# EAGLE library part 09032646825 (library con-harting-din)
EUROCARD DIN CONNECTOR female, 96 pin
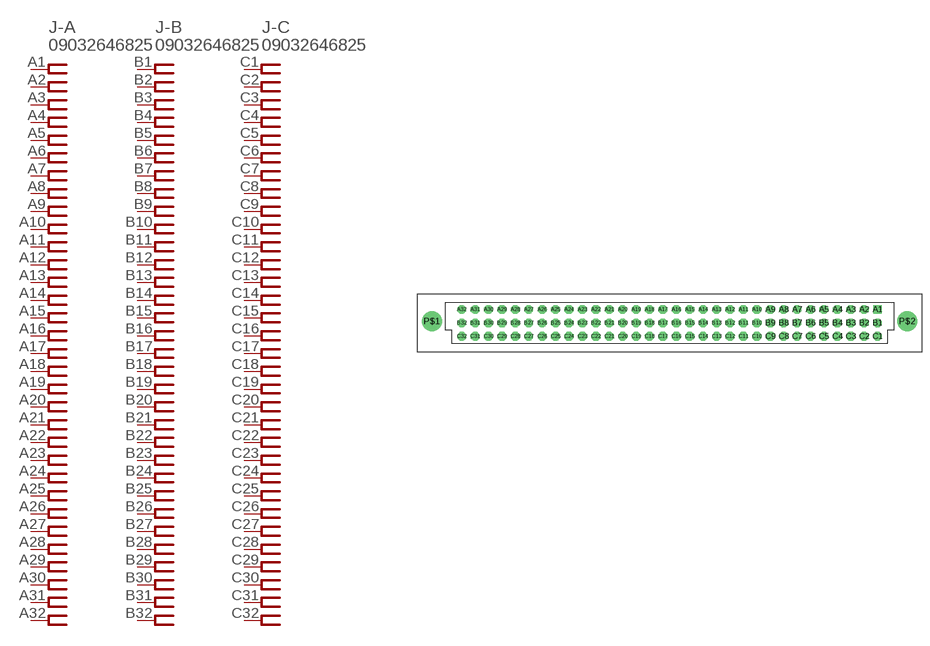
[diagram p1: symbol with the pads of 09032646825; footprint 09032646825]

Designator prefix J; gates -A=PIN32F -B=PIN32F -C=PIN32F

## 09032646825  [09032646825]
A1  -A:1  pas
A2  -A:2  pas
A3  -A:3  pas
A4  -A:4  pas
A5  -A:5  pas
A6  -A:6  pas
A7  -A:7  pas
A8  -A:8  pas
A9  -A:9  pas
A10  -A:10  pas
A11  -A:11  pas
A12  -A:12  pas
A13  -A:13  pas
A14  -A:14  pas
A15  -A:15  pas
A16  -A:16  pas
A17  -A:17  pas
A18  -A:18  pas
A19  -A:19  pas
A20  -A:20  pas
A21  -A:21  pas
A22  -A:22  pas
A23  -A:23  pas
A24  -A:24  pas
A25  -A:25  pas
A26  -A:26  pas
A27  -A:27  pas
A28  -A:28  pas
A29  -A:29  pas
A30  -A:30  pas
A31  -A:31  pas
A32  -A:32  pas
B1  -B:1  pas
B2  -B:2  pas
B3  -B:3  pas
B4  -B:4  pas
B5  -B:5  pas
B6  -B:6  pas
B7  -B:7  pas
B8  -B:8  pas
B9  -B:9  pas
B10  -B:10  pas
B11  -B:11  pas
B12  -B:12  pas
B13  -B:13  pas
B14  -B:14  pas
B15  -B:15  pas
B16  -B:16  pas
B17  -B:17  pas
B18  -B:18  pas
B19  -B:19  pas
B20  -B:20  pas
B21  -B:21  pas
B22  -B:22  pas
B23  -B:23  pas
B24  -B:24  pas
B25  -B:25  pas
B26  -B:26  pas
B27  -B:27  pas
B28  -B:28  pas
B29  -B:29  pas
B30  -B:30  pas
B31  -B:31  pas
B32  -B:32  pas
C1  -C:1  pas
C2  -C:2  pas
C3  -C:3  pas
C4  -C:4  pas
C5  -C:5  pas
C6  -C:6  pas
C7  -C:7  pas
C8  -C:8  pas
C9  -C:9  pas
C10  -C:10  pas
C11  -C:11  pas
C12  -C:12  pas
C13  -C:13  pas
C14  -C:14  pas
C15  -C:15  pas
C16  -C:16  pas
C17  -C:17  pas
C18  -C:18  pas
C19  -C:19  pas
C20  -C:20  pas
C21  -C:21  pas
C22  -C:22  pas
C23  -C:23  pas
C24  -C:24  pas
C25  -C:25  pas
C26  -C:26  pas
C27  -C:27  pas
C28  -C:28  pas
C29  -C:29  pas
C30  -C:30  pas
C31  -C:31  pas
C32  -C:32  pas

## Footprint 09032646825 (pad centres in mm)
FEMALE DIN CONNECTOR
drill 1.016 pad 1.676 square: A1 39.37,2.54
drill 1.016 pad 1.676 octagon: A2 36.83,2.54; A3 34.29,2.54; A4 31.75,2.54; A5 29.21,2.54; A6 26.67,2.54; A7 24.13,2.54; A8 21.59,2.54; A9 19.05,2.54; A10 16.51,2.54; A11 13.97,2.54; A12 11.43,2.54; A13 8.89,2.54; A14 6.35,2.54; A15 3.81,2.54; A16 1.27,2.54; A17 -1.27,2.54; A18 -3.81,2.54; A19 -6.35,2.54; A20 -8.89,2.54; A21 -11.43,2.54; A22 -13.97,2.54; A23 -16.51,2.54; A24 -19.05,2.54; A25 -21.59,2.54; A26 -24.13,2.54; A27 -26.67,2.54; A28 -29.21,2.54; A29 -31.75,2.54; A30 -34.29,2.54; A31 -36.83,2.54; A32 -39.37,2.54; B1 39.37,0; B2 36.83,0; B3 34.29,0; B4 31.75,0; B5 29.21,0; B6 26.67,0; B7 24.13,0; B8 21.59,0; B9 19.05,0; B10 16.51,0; B11 13.97,0; B12 11.43,0; B13 8.89,0; B14 6.35,0; B15 3.81,0; B16 1.27,0; B17 -1.27,0; B18 -3.81,0; B19 -6.35,0; B20 -8.89,0; B21 -11.43,0; B22 -13.97,0; B23 -16.51,0; B24 -19.05,0; B25 -21.59,0; B26 -24.13,0; B27 -26.67,0; B28 -29.21,0; B29 -31.75,0; B30 -34.29,0; B31 -36.83,0; B32 -39.37,0; C1 39.37,-2.54; C2 36.83,-2.54; C3 34.29,-2.54; C4 31.75,-2.54; C5 29.21,-2.54; C6 26.67,-2.54; C7 24.13,-2.54; C8 21.59,-2.54; C9 19.05,-2.54; C10 16.51,-2.54; C11 13.97,-2.54; C12 11.43,-2.54; C13 8.89,-2.54; C14 6.35,-2.54; C15 3.81,-2.54; C16 1.27,-2.54; C17 -1.27,-2.54; C18 -3.81,-2.54; C19 -6.35,-2.54; C20 -8.89,-2.54; C21 -11.43,-2.54; C22 -13.97,-2.54; C23 -16.51,-2.54; C24 -19.05,-2.54; C25 -21.59,-2.54; C26 -24.13,-2.54; C27 -26.67,-2.54; C28 -29.21,-2.54; C29 -31.75,-2.54; C30 -34.29,-2.54; C31 -36.83,-2.54; C32 -39.37,-2.54
drill 2.8: P$1 -45,0.3; P$2 45,0.3